# Altium footprint library Synthiam-roundtrip2.PcbLib: 481 footprints (part 13 of 31)
Each footprint in its own frame and in the unit in brackets; x right, y up, seen from the top. Pads: shape width x height; smd on the part's side, far side on the other; paste and mask are expansions set on the pad; w line width, h text height; cw(c..) or ccw(c..) is an arc to the next point about the centre after c.
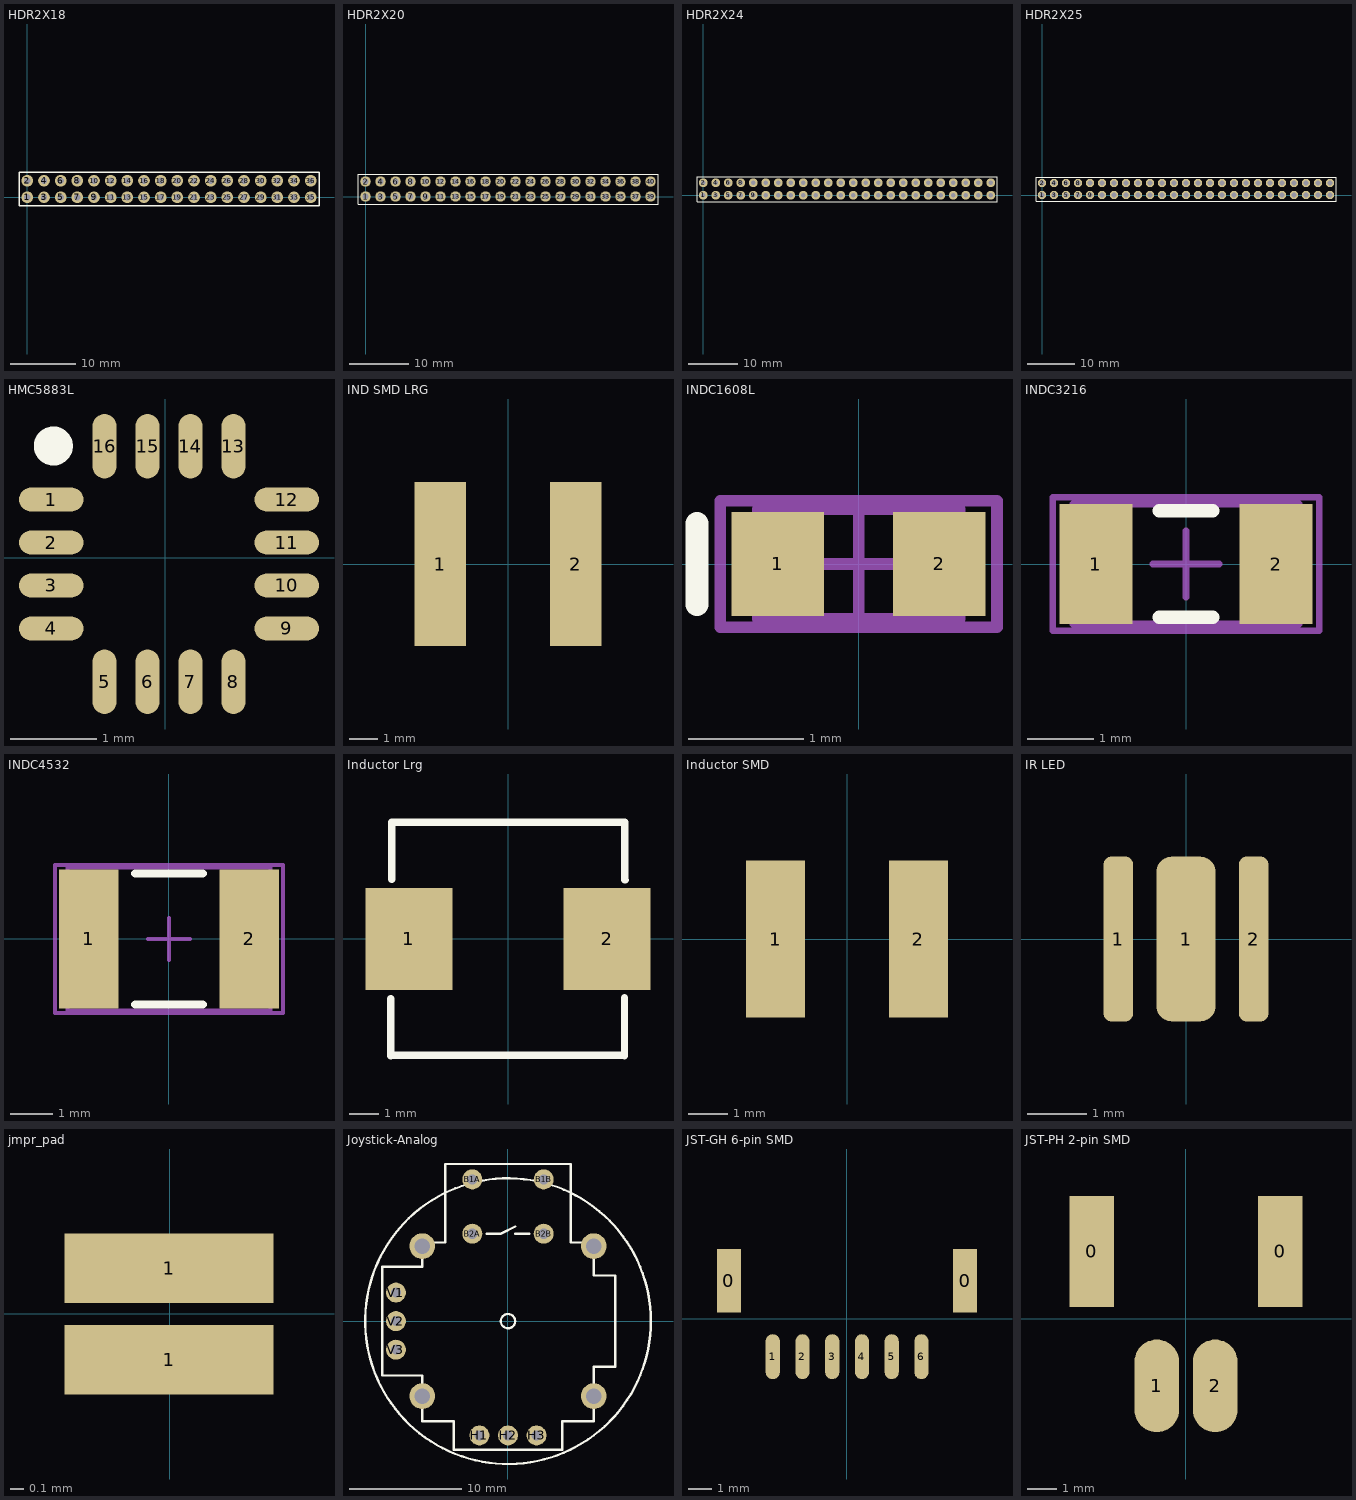
[diagram p12: the footprints below, top view; thin cyan lines are the x and y axes]

## HDR2X18 [mil] "Connector; Header; 18x2 Position"
pads (36):
  round 70 hole 38: 1(0,0) 2(0,100) 3(100,0) 4(100,100) 5(200,0) 6(200,100) 7(300,0) 8(300,100) 9(400,0) 10(400,100) 11(500,0) 12(500,100) 13(600,0) 14(600,100) 15(700,0) 16(700,100) 17(800,0) 18(800,100) 19(900,0) 20(900,100) 21(1000,0) 22(1000,100) 23(1100,0) 24(1100,100) 25(1200,0) 26(1200,100) 27(1300,0) 28(1300,100) 29(1400,0) 30(1400,100) 31(1500,0) 32(1500,100) 33(1600,0) 34(1600,100) 35(1700,0) 36(1700,100)
Top Overlay:
  lines w7.87: -50,-50 1750,-50 1750,150 -50,150 -50,-50

## HDR2X20 [mil] "Connector; Header; 20x2 Position"
pads (40):
  round 70 hole 38: 1(0,0) 2(0,100) 3(100,0) 4(100,100) 5(200,0) 6(200,100) 7(300,0) 8(300,100) 9(400,0) 10(400,100) 11(500,0) 12(500,100) 13(600,0) 14(600,100) 15(700,0) 16(700,100) 17(800,0) 18(800,100) 19(900,0) 20(900,100) 21(1000,0) 22(1000,100) 23(1100,0) 24(1100,100) 25(1200,0) 26(1200,100) 27(1300,0) 28(1300,100) 29(1400,0) 30(1400,100) 31(1500,0) 32(1500,100) 33(1600,0) 34(1600,100) 35(1700,0) 36(1700,100) 37(1800,0) 38(1800,100) 39(1900,0) 40(1900,100)
Top Overlay:
  lines w7.87: -50,-50 1950,-50 1950,150 -50,150 -50,-50

## HDR2X24 [mil] "Connector; Header; 24x2 Position"
pads (48):
  round 70 hole 38: 1(0,0) 2(0,100) 3(100,0) 4(100,100) 5(200,0) 6(200,100) 7(300,0) 8(300,100) 9(400,0) 10(400,100) 11(500,0) 12(500,100) 13(600,0) 14(600,100) 15(700,0) 16(700,100) 17(800,0) 18(800,100) 19(900,0) 20(900,100) 21(1000,0) 22(1000,100) 23(1100,0) 24(1100,100) 25(1200,0) 26(1200,100) 27(1300,0) 28(1300,100) 29(1400,0) 30(1400,100) 31(1500,0) 32(1500,100) 33(1600,0) 34(1600,100) 35(1700,0) 36(1700,100) 37(1800,0) 38(1800,100) 39(1900,0) 40(1900,100) 41(2000,0) 42(2000,100) 43(2100,0) 44(2100,100) 45(2200,0) 46(2200,100) 47(2300,0) 48(2300,100)
Top Overlay:
  lines w7.87: -50,-50 -50,150 2350,150 2350,-50 -50,-50

## HDR2X25 [mil] "Connector; Header; 25x2 Position"
pads (50):
  round 70 hole 38: 1(0,0) 2(0,100) 3(100,0) 4(100,100) 5(200,0) 6(200,100) 7(300,0) 8(300,100) 9(400,0) 10(400,100) 11(500,0) 12(500,100) 13(600,0) 14(600,100) 15(700,0) 16(700,100) 17(800,0) 18(800,100) 19(900,0) 20(900,100) 21(1000,0) 22(1000,100) 23(1100,0) 24(1100,100) 25(1200,0) 26(1200,100) 27(1300,0) 28(1300,100) 29(1400,0) 30(1400,100) 31(1500,0) 32(1500,100) 33(1600,0) 34(1600,100) 35(1700,0) 36(1700,100) 37(1800,0) 38(1800,100) 39(1900,0) 40(1900,100) 41(2000,0) 42(2000,100) 43(2100,0) 44(2100,100) 45(2200,0) 46(2200,100) 47(2300,0) 48(2300,100) 49(2400,0) 50(2400,100)
Top Overlay:
  lines w7.87: -50,-50 -50,150 2450,150 2450,-50 -50,-50

## HMC5883L [mm] "HMC5883L Compass"
pads (16):
  rrect100% 0.75x0.28 smd: 1(-1.324,0.677) 2(-1.324,0.177) 3(-1.324,-0.323) 4(-1.324,-0.823) 9(1.416,-0.823) 10(1.416,-0.323) 11(1.416,0.177) 12(1.416,0.677)
  rrect100% 0.28x0.75 smd: 5(-0.704,-1.443) 6(-0.204,-1.443) 7(0.296,-1.443) 8(0.796,-1.443) 13(0.796,1.297) 14(0.296,1.297) 15(-0.204,1.297) 16(-0.704,1.297)
Top Overlay:
  circle w0.254: c-1.3,1.3 r0.1

## IND SMD LRG [mil]
height 157.48
pads (2):
  rect 70x224 smd: 1(-92.5,0) 2(92.5,0)

## INDC1608L [mm] "Chip Inductor, Body 1.6x0.8mm, IPC High Density"
height 0.55
pads (2):
  rect 0.8x0.9 smd: 1(-0.7,0) 2(0.7,0)
Top Overlay:
  lines w0.2: -1.4,-0.35 -1.4,0.35
Mechanical 13:
  lines w0.1: -0.875,-0.475 0.875,-0.475 0.875,0.475 -0.875,0.475 -0.875,-0.475
Mechanical 15:
  lines w0.1: -0.475,0 0.475,0 ; 0,-0.475 0,0.475 ; -1.2,-0.55 1.2,-0.55 1.2,0.55 -1.2,0.55 -1.2,-0.55
3D body: height 0.55, standoff 0, extent -0.875,-0.475 0.875,0.475

## INDC3216 [mm] "Chip Inductor, Body 3.2x1.6mm, IPC High Density"
height 0.55
pads (2):
  rect 1.1x1.8 smd: 1(-1.35,0) 2(1.35,0)
Top Overlay:
  lines w0.2: -0.4,-0.8 0.4,-0.8 ; -0.4,0.8 0.4,0.8
Mechanical 13:
  lines w0.1: -1.7,-0.9 1.7,-0.9 1.7,0.9 -1.7,0.9 -1.7,-0.9
Mechanical 15:
  lines w0.1: -0.5,0 0.5,0 ; 0,-0.5 0,0.5 ; -2,-1 2,-1 2,1 -2,1 -2,-1
3D body: height 0.55, standoff 0, extent -1.7,-0.9 1.7,0.9

## INDC4532 [mm] "Chip Inductor, Body 4.5x3.2mm, IPC High Density"
height 0.55
pads (2):
  rect 1.4x3.3 smd: 1(-1.9,0) 2(1.9,0)
Top Overlay:
  lines w0.2: -0.8,-1.55 0.8,-1.55 ; -0.8,1.55 0.8,1.55
Mechanical 13:
  lines w0.1: -2.4,-1.7 2.4,-1.7 2.4,1.7 -2.4,1.7 -2.4,-1.7
Mechanical 15:
  lines w0.1: -0.5,0 0.5,0 ; 0,-0.5 0,0.5 ; -2.7,-1.75 2.7,-1.75 2.7,1.75 -2.7,1.75 -2.7,-1.75
3D body: height 0.55, standoff 0, extent -2.4,-1.7 2.4,1.7

## Inductor Lrg [mm]
pads (2):
  rect 3x3.5 smd: 1(-3.4,0) 2(3.4,0)
Top Overlay:
  lines w0.254: -4.02,-4.01 -4.02,-2.05 ; -4,-4 4,-4 ; -4,4 4,4 ; -3.995,2.05 -3.995,4 ; 4,-4.01 4,-2.015 ; 4.015,4 4.015,2.035 4.03,2.02

## Inductor SMD [mm]
height 4
pads (2):
  rect 1.5x4 smd: 1(-1.816,0) 2(1.816,0)

## IR LED [mm]
pads (3):
  rrect50% 0.5x2.8 smd: 1(-1.15,0) 2(1.15,0)
  rrect50% 1x2.8 smd: 1(0,0)

## jmpr_pad [mm]
pads (2):
  rect 1.5x0.5 smd: 1(-0.005,-0.33) 1(-0.005,0.325)

## Joystick-Analog [mil]
height 1188.98
pads (14):
  round 70 hole 35.43: B1A(-124.93,496.83) B1B(125.07,496.83) B2A(-124.93,306.67) B2B(125.07,306.67)
  round 70 hole 35: H1(-99.93,-399.24) H2(0.07,-399.24) H3(100.07,-399.24) V1(-392.06,100.76) V2(-392.06,0.76) V3(-392.06,-99.24)
  round 90 hole 55: MOUNT1(-299.93,263.26) MOUNT2(-299.93,-261.74) MOUNT3(300.07,-261.74) MOUNT4(300.07,263.26)
Top Overlay:
  circle w8: c0.07,0.76 r25
  circle w8: c0.07,0.76 r500
  lines w8: -74.93,306.67 -24.93,306.67 25.07,331.67 ; 25.07,306.67 75.07,306.67 ; -439.93,-189.24 -299.93,-189.24 -299.93,-349.24 -189.93,-349.24 -189.93,-449.24 190.07,-449.24 190.07,-349.24 300.07,-349.24 300.07,-159.24 375.07,-159.24 375.07,160.76 300.07,160.76 300.07,275.76 220.07,275.76 220.07,550.76 -219.93,550.76 -219.93,275.76 -299.93,275.76 -299.93,190.76 -439.93,190.76 -439.93,-189.24

## JST-GH 6-pin SMD [mm]
pads (8):
  rect 1x2.7 smd: 0(-4.985,1.604) 0(4.985,1.604)
  oval 0.6x1.9 smd: 1(-3.136,-1.604) 2(-1.88,-1.604) 3(-0.624,-1.604) 4(0.632,-1.604) 5(1.887,-1.604) 6(3.143,-1.604)

## JST-PH 2-pin SMD [mil]
pads (4):
  rect 60x150 smd: 0(-127.24,90.65) 0(127.24,90.65)
  oval 60x125 smd: 1(-39.35,-90.65) 2(39.39,-90.65)